# Altium schematic symbol library LEDs.SchLib: 14 symbols
Pins are listed as number, name and electrical type; pins without a type are passive.

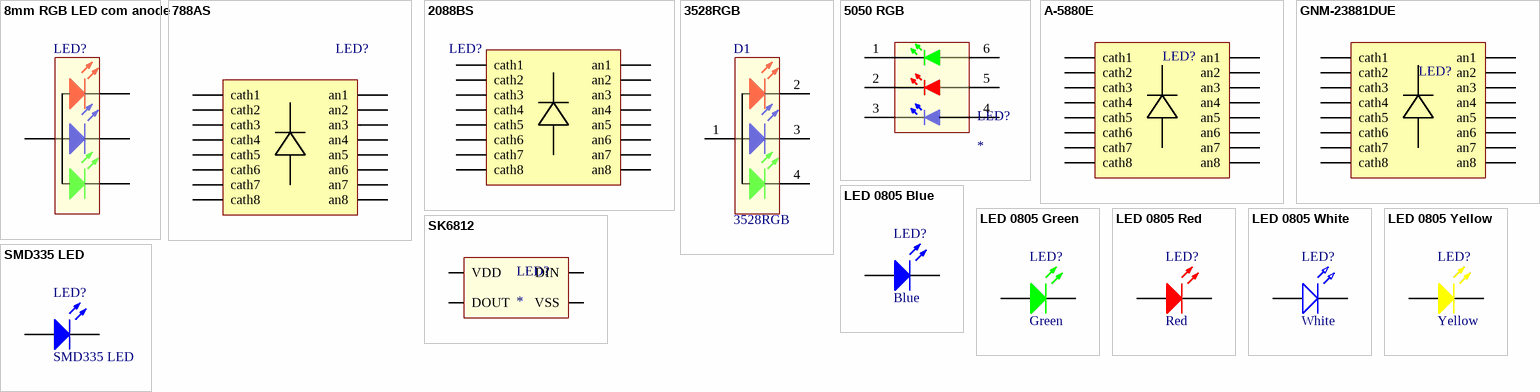
[diagram p0: symbols 8mm RGB LED com anode to SMD335 LED]

## 8mm RGB LED com anode
designator LED?  (value not drawn)
RGB DIP LED
footprint 8mm RGB LED com anode
footprint 8mm RGB LED com anode normal space
pins: a, b, g, r

## 788AS
designator LED?
1.9mm led matrix (KEM-7088-ASR)
footprint KEM-7088-ASR (LED matrix 1.9mm, 20x20mm); pin to pad 3>5 4>7 5>8 6>9 7>12 8>14 9>3 10>4 11>6 12>10 13>11 14>13
footprint KEM-7088-ASR SMD (LED matrix 1.9mm, 20x20mm); pin to pad 3>5 4>7 5>8 6>9 7>12 8>14 9>3 10>4 11>6 12>10 13>11 14>13
pins: 1 cath1, 2 cath2, 3 cath3, 4 cath4, 5 cath5, 6 cath6, 7 cath7, 8 cath8, 9 an1, 10 an2, 11 an3, 12 an4, 13 an5, 14 an6, 15 an7, 16 an8

## 2088BS
designator LED?
5mm LED matrix, not cheked!
footprint 2088BS (led matrix 5mm); pin to pad 1>13 2>3 3>4 4>10 5>6 6>11 7>15 8>16 10>14 11>8 13>1 14>7 15>2 16>5
pins: 1 cath1, 2 cath2, 3 cath3, 4 cath4, 5 cath5, 6 cath6, 7 cath7, 8 cath8, 9 an1, 10 an2, 11 an3, 12 an4, 13 an5, 14 an6, 15 an7, 16 an8

## 3528RGB
designator D1
RGB SMD LED
footprint 3528 RGB
pins: 1 A, 2 K, 3 K, 4 K

## 5050 RGB
designator LED?
RGB SMD LED
footprint 5050 (SMD RGB LED)
pins: 1 K, 2 K, 3 K, 4 A, 5 A, 6 A

## A-5880E
designator LED?
5mm LED matrix, not cheked!
footprint A-5880E (led matrix 5mm)
pins: 1 cath1, 2 cath2, 3 cath3, 4 cath4, 5 cath5, 6 cath6, 7 cath7, 8 cath8, 9 an1, 10 an2, 11 an3, 12 an4, 13 an5, 14 an6, 15 an7, 16 an8

## GNM-23881DUE
designator LED?
5mm LED matrix, not cheked!
footprint GNM-23881DUE (brght led matrix 5mm)
pins: 1 cath1, 2 cath2, 3 cath3, 4 cath4, 5 cath5, 6 cath6, 7 cath7, 8 cath8, 9 an1, 10 an2, 11 an3, 12 an4, 13 an5, 14 an6, 15 an7, 16 an8

## LED 0805 Blue
designator LED?, comment Blue
LED 0805 Blue; Published: 8-Jun-2000; LatestRevisionDate: 08-Jul-2005; LatestRevisionNote: Mech Layer 1 removed.; PackageReference: LED-0; Publisher: Altium Limited; PackageDescription: LED; 2 Leads
footprint 0805 LED Blue (Chip Resistor, Body 2.0x1.2mm, IPC High Density)
pins: 1 A, 2 K

## LED 0805 Green
designator LED?, comment Green
LED 0805 Green; Published: 8-Jun-2000; LatestRevisionDate: 08-Jul-2005; LatestRevisionNote: Mech Layer 1 removed.; PackageReference: LED-0; Publisher: Altium Limited; PackageDescription: LED; 2 Leads
footprint 0805 LED Green (Chip Resistor, Body 2.0x1.2mm, IPC High Density)
pins: 1 A, 2 K

## LED 0805 Red
designator LED?, comment Red
LED 0805 Red; Published: 8-Jun-2000; LatestRevisionDate: 08-Jul-2005; LatestRevisionNote: Mech Layer 1 removed.; PackageReference: LED-0; Publisher: Altium Limited; PackageDescription: LED; 2 Leads
footprint 0805 LED Red (Chip Resistor, Body 2.0x1.2mm, IPC High Density)
pins: 1 A, 2 K

## LED 0805 White
designator LED?, comment White
LED 0805 White; Published: 8-Jun-2000; LatestRevisionDate: 08-Jul-2005; LatestRevisionNote: Mech Layer 1 removed.; PackageReference: LED-0; Publisher: Altium Limited; PackageDescription: LED; 2 Leads
footprint 0805 LED White (Chip Resistor, Body 2.0x1.2mm, IPC High Density)
pins: 1 A, 2 K

## LED 0805 Yellow
designator LED?, comment Yellow
LED 0805 Yellow; Published: 8-Jun-2000; LatestRevisionDate: 08-Jul-2005; LatestRevisionNote: Mech Layer 1 removed.; PackageReference: LED-0; Publisher: Altium Limited; PackageDescription: LED; 2 Leads
footprint 0805 LED Yellow (Chip Resistor, Body 2.0x1.2mm, IPC High Density)
pins: 1 A, 2 K

## SK6812
designator LED?
Addressable RGB led
footprint 5050 - 4 pin
footprint 3535 (RGB)
pins: DIN, DOUT, VDD, VSS

## SMD335 LED
designator LED?
Side glow; Published: 8-Jun-2000; LatestRevisionDate: 08-Jul-2005; LatestRevisionNote: Mech Layer 1 removed.; PackageReference: LED-0; Publisher: Altium Limited; PackageDescription: LED; 2 Leads
simulation model LED0 (Diode)
footprint SMD335 led (side glow)
pins: 1 A, 2 K